# EAGLE library part J0035D21B (library pulse-eng)
RJ45 PulseJack w/LEDs
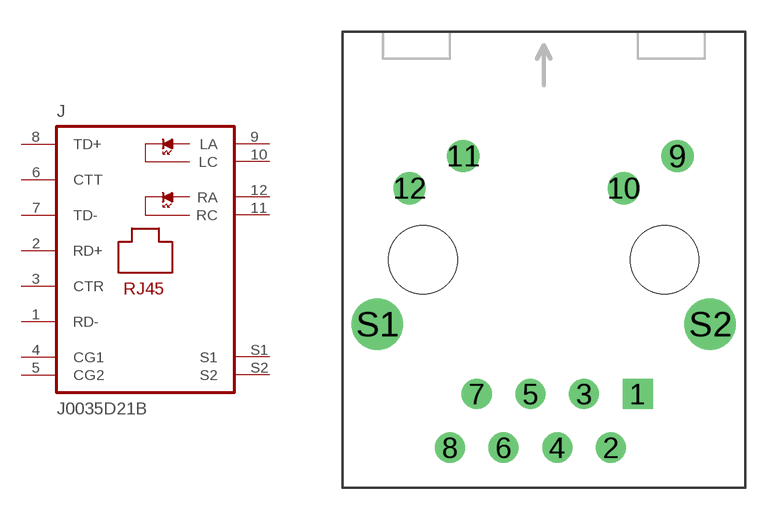
[diagram p27: symbol with the pads of J0-A/B/F; footprint J0-A/B/F]

Designator prefix J

## J0035D21B  [J0-A/B/F]
1  RD-  pas
2  RD+  pas
3  CTR  pas
4  CG1  pas
5  CG2  pas
6  CTT  pas
7  TD-  pas
8  TD+  pas
9  LA  pas
10  LC  pas
11  RC  pas
12  RA  pas
S1  S1  pas
S2  S2  pas

## Footprint J0-A/B/F (pad centres in mm)
J0 Series RJ45 with Ethernet Balun and LED's
drill 0.914 square: 1 4.445,-6.35
drill 0.914: 2 3.175,-8.89; 3 1.905,-6.35; 4 0.635,-8.89; 5 -0.635,-6.35; 6 -1.905,-8.89; 7 -3.175,-6.35; 8 -4.445,-8.89
drill 1.016: 9 6.325,4.902; 10 3.785,3.378; 11 -3.81,4.902; 12 -6.35,3.378
drill 1.626: S1 -7.874,-3.048; S2 7.874,-3.048
hole 3.251 at -5.715,0
hole 3.251 at 5.715,0